# Altium schematic symbol library 830017146.SchLib: 1 symbol
Pins are listed as number, name and electrical type; pins without a type are passive.

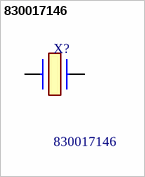
[diagram p0: symbol 830017146]

## 830017146
designator X?
WE-XTAL Quartz Crystal HC49/4HSMX; 12.4 x 4.7mm; 20.0 MHz; Tol = +/-30 ppm; Stab = +/-50 ppm Temp Range: -10 to 60 C; Load Cap = 30 pF;; Manufacturer_Name: Wurth Elektronik; Geometry.Height: 4.5mm; Mouser Part Number: 710-830017146; Mouser Price/Stock: https://www.mouser.co.uk/ProductDetail/Wurth-Elektronik/830017146?qs=2WXlatMagcH5cMIrI1393w%3D%3D; Manufacturer_Part_Number: 830017146; Datasheet Link: https://www.we-online.com/catalog/datasheet/830017146.pdf
footprint 830017146
pins: 1, 2